# Altium footprint library PcbLib1.PcbLib: 5 footprints
Each footprint in its own frame and in the unit in brackets; x right, y up, seen from the top. Pads: shape width x height; smd on the part's side, far side on the other; paste and mask are expansions set on the pad; w line width, h text height; cw(c..) or ccw(c..) is an arc to the next point about the centre after c.
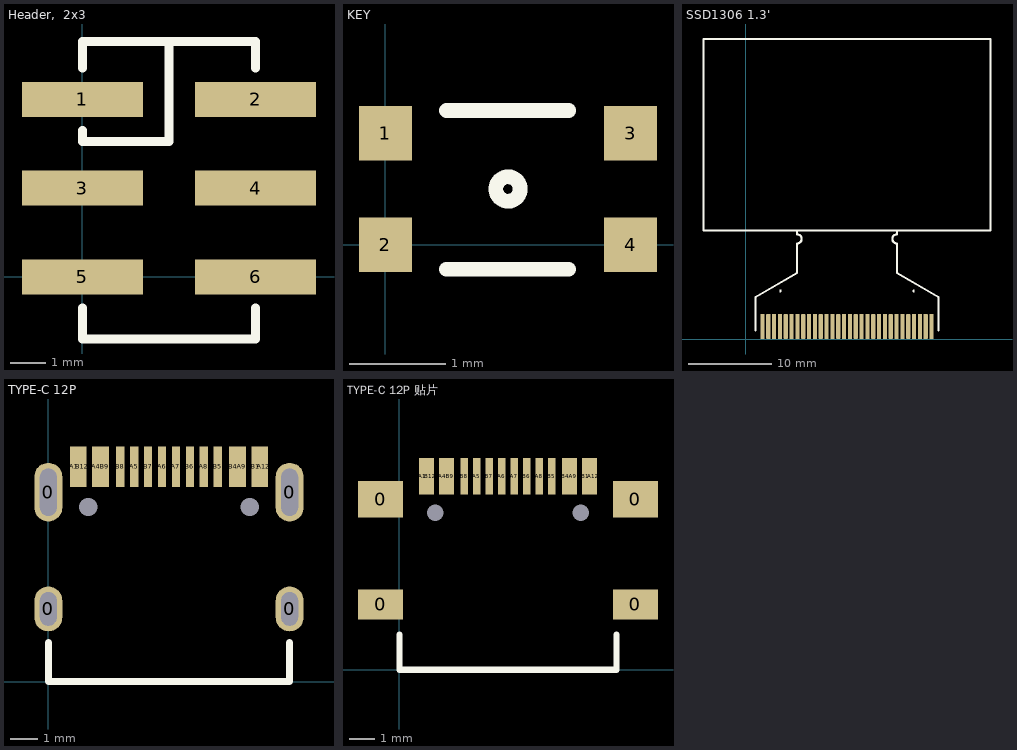
[diagram p0: the footprints below, top view; thin cyan lines are the x and y axes]

## Header,  2x3 [mm]
pads (6):
  rect 3.45x1 smd: 1(0,5.08) 2(4.95,5.08) 3(0,2.54) 4(4.95,2.54) 5(0,0) 6(4.95,0)
Top Overlay:
  lines w0.254: 0,-0.889 0,-1.778 4.953,-1.778 4.953,-0.889 ; 0,4.191 0,3.873 2.476,3.873 2.476,6.731 ; 0,5.969 0,6.731 4.953,6.731 4.953,5.969

## KEY [mm]
pads (4):
  rect 0.55x0.57 smd: 1(0,1.16) 2(0,0) 3(2.55,1.16) 4(2.55,0)
Top Overlay:
  circle w0.152: c1.275,0.58 r0.127
  lines w0.152: 0.635,-0.254 1.905,-0.254 ; 0.635,1.397 1.905,1.397

## SSD1306 1.3' [mm]
pads (30):
  rrect30% 0.5x3 smd: 1(2,1.5) 2(2.7,1.5) 3(3.4,1.5) 4(4.1,1.5) 5(4.8,1.5) 6(5.5,1.5) 7(6.2,1.5) 8(6.9,1.5) 9(7.6,1.5) 10(8.3,1.5) 11(9,1.5) 12(9.7,1.5) 13(10.4,1.5) 14(11.1,1.5) 15(11.8,1.5) 16(12.5,1.5) 17(13.2,1.5) 18(13.9,1.5) 19(14.6,1.5) 20(15.3,1.5) 21(16,1.5) 22(16.7,1.5) 23(17.4,1.5) 24(18.1,1.5) 25(18.8,1.5) 26(19.5,1.5) 27(20.2,1.5) 28(20.9,1.5) 29(21.6,1.5) 30(22.3,1.5)
Top Overlay:
  circle w0.127: c20.15,5.766 r0.1
  circle w0.127: c4.15,5.766 r0.1
  lines w0.254: 1.15,1.016 1.15,5.016 6.15,7.903 6.15,11.459 ccw(c6.15,12.016) 6.15,12.573 6.15,12.962 ; 18.15,13.005 18.15,12.573 ccw(c18.15,12.016) 18.15,11.459 18.15,7.903 23.151,5.016 ; 23.15,1.016 23.15,5.016 ; -5.1,13.016 29.4,13.016 29.4,36.016 -5.1,36.016 -5.1,13.016

## TYPE-C 12P [mm]
pads (22):
  oval 1x1.6 hole 0.6 slot 1.2 at 90 deg: 0(0,2.6) 0(8.64,2.6)
  oval 1x2.1 hole 0.6 slot 1.7 at 90 deg: 0(0,6.78) 0(8.64,6.78)
  round 0 hole 0.65: 5(1.43,6.25) 5(7.21,6.25)
  rect 0.3x1.45 smd: A1(0.92,7.695) A4(1.72,7.695) A5(3.07,7.695) A6(4.07,7.695) A7(4.57,7.695) A8(5.57,7.695) A9(6.92,7.695) A12(7.72,7.695) B1(7.42,7.695) B4(6.62,7.695) B5(6.07,7.695) B6(5.07,7.695) B7(3.57,7.695) B8(2.57,7.695) B9(2.02,7.695) B12(1.22,7.695)
Top Overlay:
  lines w0.254: 0,1.397 0,0 8.64,0 ; 8.636,0.004 8.636,1.397
3D body: height 3.21, standoff 0, extent 0,0 8.636,8.001

## TYPE-C 12P 贴片 [mm]
pads (22):
  rect 1.8x1.2 smd: 0(-0.75,2.6) 0(9.39,2.6)
  rect 1.8x1.45 smd: 0(-0.75,6.78) 0(9.39,6.78)
  round 0 hole 0.65: 5(1.43,6.25) 5(7.21,6.25)
  rect 0.3x1.45 smd: A1(0.92,7.695) A4(1.72,7.695) A5(3.07,7.695) A6(4.07,7.695) A7(4.57,7.695) A8(5.57,7.695) A9(6.92,7.695) A12(7.72,7.695) B1(7.42,7.695) B4(6.62,7.695) B5(6.07,7.695) B6(5.07,7.695) B7(3.57,7.695) B8(2.57,7.695) B9(2.02,7.695) B12(1.22,7.695)
Top Overlay:
  lines w0.254: 0,1.397 0,0 8.64,0 ; 8.636,0.004 8.636,1.397
3D body: height 3.21, standoff 0, extent 0,0 8.636,8.001